# Altium footprint library PCB封装.PcbLib: 150 footprints (part 6 of 10)
Each footprint in its own frame and in the unit in brackets; x right, y up, seen from the top. Pads: shape width x height; smd on the part's side, far side on the other; paste and mask are expansions set on the pad; w line width, h text height; cw(c..) or ccw(c..) is an arc to the next point about the centre after c.
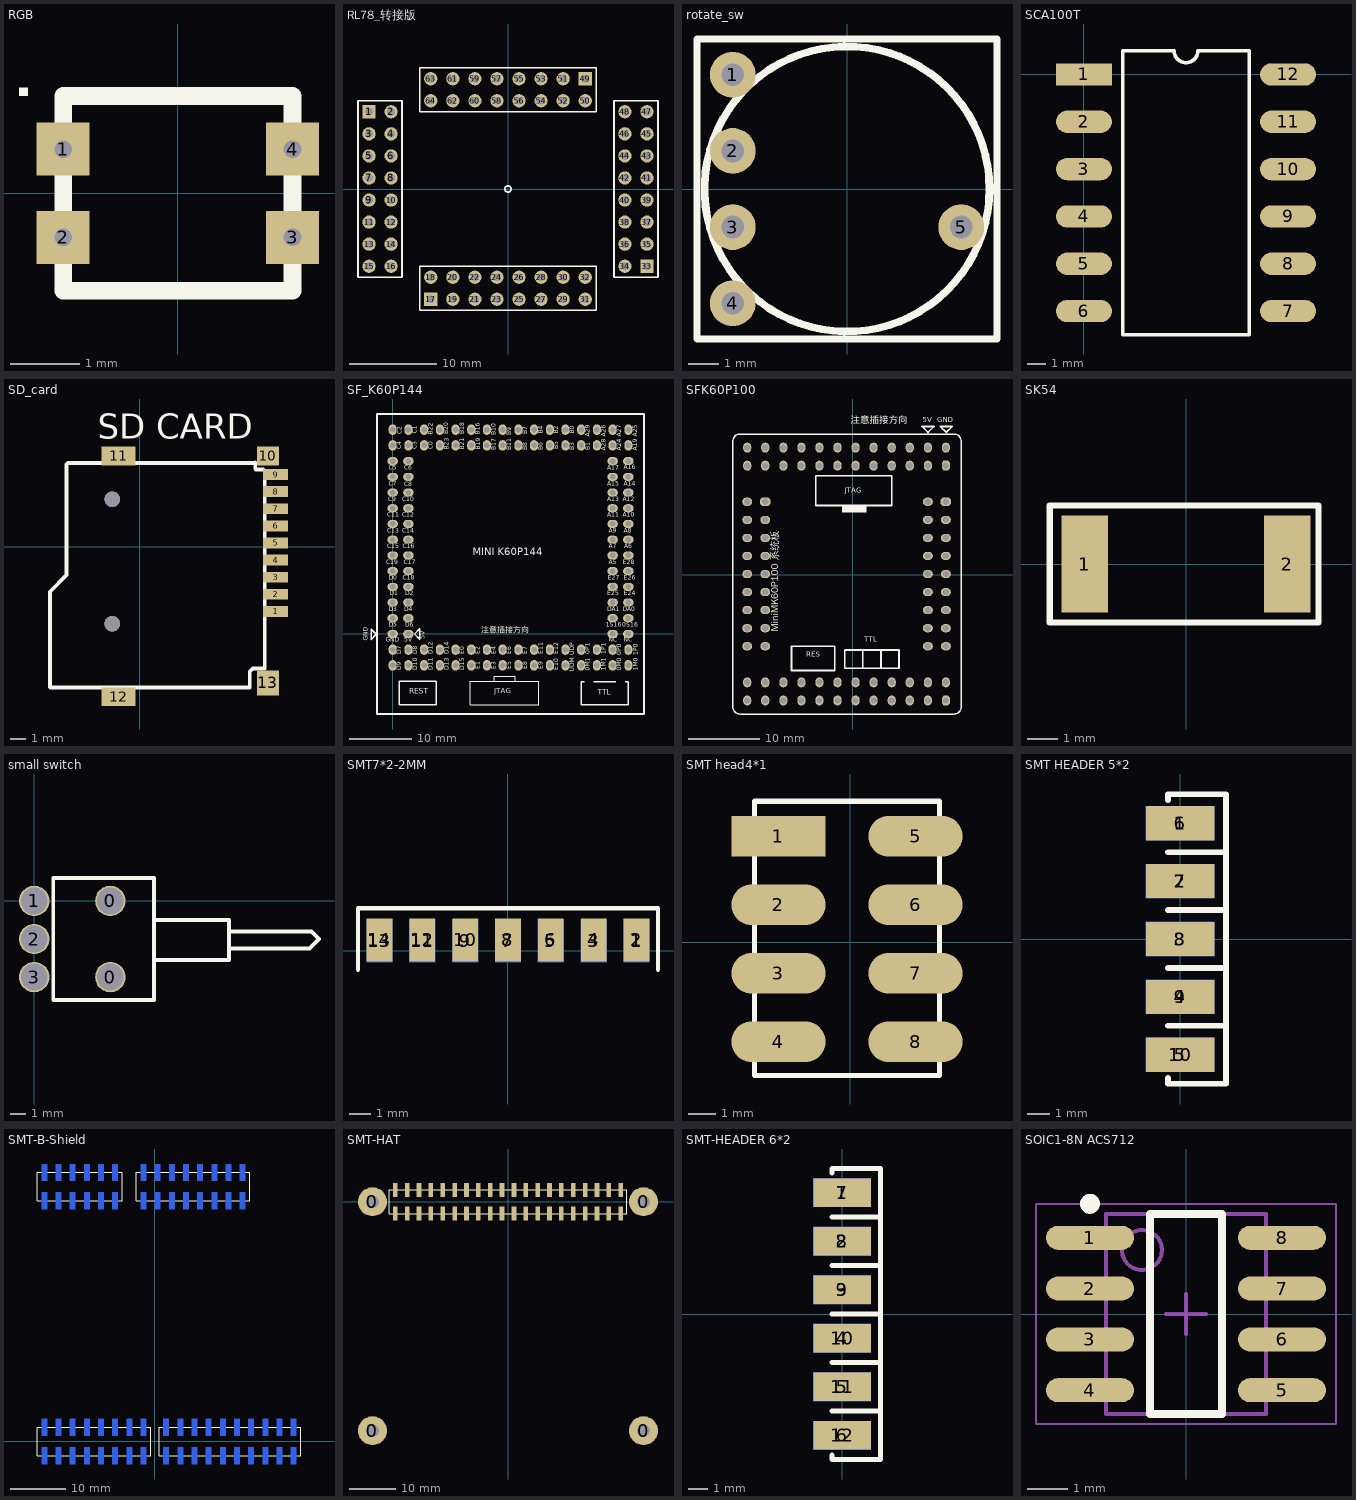
[diagram p5: the footprints below, top view; thin cyan lines are the x and y axes]

## RGB [mil]
height 2
pads (4):
  rect 30x30 hole 10: 1(-65,25) 2(-65,-25) 3(65,-25) 4(65,25)
Top Overlay:
  rectangle: -90,55 -85,60
  lines w10: -64.96,-55.12 -64.96,55.12 64.96,55.12 64.96,-55.12 -64.96,-55.12

## RL78_转接版 [mil]
height 393.7
pads (64):
  rect 60x60 hole 35: 1(-630,350) 17(-350,-500) 33(630,-350) 49(350,500)
  round 60 hole 35: 2(-530,350) 3(-630,250) 4(-530,250) 5(-630,150) 6(-530,150) 7(-630,50) 8(-530,50) 9(-630,-50) 10(-530,-50) 11(-630,-150) 12(-530,-150) 13(-630,-250) 14(-530,-250) 15(-630,-350) 16(-530,-350) 18(-350,-400) 19(-250,-500) 20(-250,-400) 21(-150,-500) 22(-150,-400) 23(-50,-500) 24(-50,-400) 25(50,-500) 26(50,-400) 27(150,-500) 28(150,-400) 29(250,-500) 30(250,-400) 31(350,-500) 32(350,-400) 34(530,-350) 35(630,-250) 36(530,-250) 37(630,-150) 38(530,-150) 39(630,-50) 40(530,-50) 41(630,50) 42(530,50) 43(630,150) 44(530,150) 45(630,250) 46(530,250) 47(630,350) 48(530,350) 50(350,400) 51(250,500) 52(250,400) 53(150,500) 54(150,400) 55(50,500) 56(50,400) 57(-50,500) 58(-50,400) 59(-150,500) 60(-150,400) 61(-250,500) 62(-250,400) 63(-350,500) 64(-350,400)
Top Overlay:
  circle w6: c0,0 r14.14
  lines w7.87: -680,400 -680,-400 -480,-400 -480,400 -678.04,400 ; -400,-550 400,-550 400,-350 -400,-350 -400,-548.04 ; 400,548.04 400,350 -400,350 -400,550 400,550 ; 678.04,-400 480,-400 480,400 680,400 680,-400

## rotate_sw [mil]
pads (5):
  round 60 hole 30: 1(-150,150) 2(-150,50) 3(-150,-50) 4(-150,-150) 5(150,-50)
Top Overlay:
  circle w10: c0,0 r187.01
  lines w9.65: -196.85,-196.85 -196.85,196.85 196.85,196.85 196.85,-196.85 -196.85,-196.85

## SCA100T [mm]
pads (12):
  rect 3x1.2 smd: 1(0,0)
  oval 3x1.2 smd: 2(0,-2.54) 3(0,-5.08) 4(0,-7.62) 5(0,-10.16) 6(0,-12.7) 7(10.96,-12.7) 8(10.96,-10.16) 9(10.96,-7.62) 10(10.96,-5.08) 11(10.96,-2.54) 12(10.96,0)
Top Overlay:
  lines w0.2: 2.085,-13.97 2.085,1.27 4.845,1.27 ccw(c5.48,1.27) 6.115,1.27 8.875,1.27 8.875,-13.97 2.085,-13.97

## SD_card [mm]
height 2
pads (13):
  rect 1.6x0.7 smd: 1(8.732,-4.16) 2(8.732,-3.06) 3(8.732,-1.96) 4(8.732,-0.86) 5(8.732,0.24) 6(8.732,1.34) 7(8.732,2.44) 8(8.732,3.54) 9(8.732,4.64)
  rect 1.4x1.2 smd: 10(8.232,5.84)
  rect 2.2x1.2 smd: 11(-1.368,5.84) 12(-1.368,-9.66)
  rect 1.4x1.6 smd: 13(8.232,-8.76)
via -1.768,-4.96 diameter 1 hole 1
via -1.768,3.04 diameter 1 hole 1
Top Overlay:
  lines w0.254: -5.788,-9.041 -5.788,-2.898 -4.721,-1.831 -4.721,5.281 -4.62,5.382 7.369,5.382 7.42,5.433 7.42,5.027 7.471,4.976 7.928,4.976 8.03,4.874 8.03,-7.826 7.268,-7.826 7.064,-8.029 7.064,-9.045 -5.768,-9.045
  text "SD CARD" at -2.714,6.937 h1.6

## SF_K60P144 [mm]
pads (112):
  oval 1.7x1.3 hole 0.9: 101(0,27.94) 102(2.54,27.94) 103(0,25.4) 104(2.54,25.4) 105(0,22.86) 106(2.54,22.86) 107(0,20.32) 108(2.54,20.32) 109(0,17.78) 110(2.54,17.78) 111(0,15.24) 112(2.54,15.24) 113(0,12.7) 114(2.54,12.7) 115(0,10.16) 116(2.54,10.16) 117(0,7.62) 118(2.54,7.62) 119(0,5.08) 120(2.54,5.08) 121(0,2.54) 122(2.54,2.54) 123(0,0) 124(2.54,0) 301(35.56,27.94) 302(38.1,27.94) 303(35.56,25.4) 304(38.1,25.4) 305(35.56,22.86) 306(38.1,22.86) 307(35.56,20.32) 308(38.1,20.32) 309(35.56,17.78) 310(38.1,17.78) 311(35.56,15.24) 312(38.1,15.24) 313(35.56,12.7) 314(38.1,12.7) 315(35.56,10.16) 316(38.1,10.16) 317(35.56,7.62) 318(38.1,7.62) 319(35.56,5.08) 320(38.1,5.08) 321(35.56,2.54) 322(38.1,2.54) 323(35.56,0) 324(38.1,0)
  oval 1.3x1.7 hole 0.9: 201(0,-5.08) 202(0,-2.54) 203(2.54,-5.08) 204(2.54,-2.54) 205(5.08,-5.08) 206(5.08,-2.54) 207(7.62,-5.08) 208(7.62,-2.54) 209(10.16,-5.08) 210(10.16,-2.54) 211(12.7,-5.08) 212(12.7,-2.54) 213(15.24,-5.08) 214(15.24,-2.54) 215(17.78,-5.08) 216(17.78,-2.54) 217(20.32,-5.08) 218(20.32,-2.54) 219(22.86,-5.08) 220(22.86,-2.54) 221(25.4,-5.08) 222(25.4,-2.54) 223(27.94,-5.08) 224(27.94,-2.54) 225(30.48,-5.08) 226(30.48,-2.54) 227(33.02,-5.08) 228(33.02,-2.54) 229(35.56,-5.08) 230(35.56,-2.54) 231(38.1,-5.08) 232(38.1,-2.54) 401(0,30.48) 402(0,33.02) 403(2.54,30.48) 404(2.54,33.02) 405(5.08,30.48) 406(5.08,33.02) 407(7.62,30.48) 408(7.62,33.02) 409(10.16,30.48) 410(10.16,33.02) 411(12.7,30.48) 412(12.7,33.02) 413(15.24,30.48) 414(15.24,33.02) 415(17.78,30.48) 416(17.78,33.02) 417(20.32,30.48) 418(20.32,33.02) 419(22.86,30.48) 420(22.86,33.02) 421(25.4,30.48) 422(25.4,33.02) 423(27.94,30.48) 424(27.94,33.02) 425(30.48,30.48) 426(30.48,33.02) 427(33.02,30.48) 428(33.02,33.02) 429(35.56,30.48) 430(35.56,33.02) 431(38.1,30.48) 432(38.1,33.02)
Top Overlay:
  lines w0.2: 16.383,-7.62 16.383,-6.858 19.812,-6.858 19.812,-7.62 ; 12.573,-11.43 23.622,-11.43 23.622,-7.62 12.573,-7.62 12.573,-11.43
  lines w0.203: 7.064,-11.303 7.064,-7.652 1.064,-7.652 1.064,-11.152 1.064,-11.43 7.064,-11.43 7.064,-11.152 ; 30.988,-7.74 30.48,-7.74 30.48,-11.43 38.1,-11.43 38.1,-7.74 37.592,-7.74 ; 32.512,-7.7 36.068,-7.7
  lines w0.254: -3.48,-0.914 -2.642,-0.076 -3.48,0.762 -3.48,-0.914 ; -2.54,-12.954 40.64,-12.954 40.64,35.56 -2.54,35.56 -2.54,-12.954 ; 3.531,-0.025 4.369,0.813 4.369,-0.864 3.531,-0.025
  text "注意插接方向" at 14.351,-0.127 h1.65
  text "GND" at -3.81,-1.143 h1.17
  text "5V" at 5.461,-0.889 h1.27
  text "TTL" at 33.147,-10.16 h1.52
  text "JTAG" at 16.383,-9.906 h1.4
  text "REST" at 2.667,-10.033 h1.52
  text "1P0" at 39.878,-3.429 h1.22
  text "1M0" at 39.878,-5.969 h1.22
  text "MINI K60P144" at 12.954,12.319 h2.03
  text "NC" at 34.925,-1.524 h1.22
  text "NC" at 37.338,-1.524 h1.22
  text "0S16" at 37.084,0.889 h1.22
  text "1S16" at 34.417,0.889 h1.22
  text "DA1" at 34.671,3.429 h1.22
  text "DA0" at 37.211,3.429 h1.22
  text "E24" at 37.338,5.969 h1.22
  text "E25" at 34.671,5.969 h1.22
  text "E26" at 37.338,8.509 h1.22
  text "E27" at 34.798,8.509 h1.22
  text "E28" at 37.211,11.049 h1.22
  text "A5" at 34.925,11.049 h1.22
  text "A7" at 34.925,13.589 h1.22
  text "A6" at 37.465,13.589 h1.22
  text "A8" at 37.338,16.129 h1.22
  text "A9" at 34.925,16.129 h1.22
  text "A10" at 37.211,18.669 h1.22
  text "A11" at 34.671,18.669 h1.22
  text "A13" at 34.671,21.209 h1.22
  text "A12" at 37.211,21.209 h1.22
  text "A14" at 37.338,23.749 h1.22
  text "A15" at 34.671,23.749 h1.22
  text "A16" at 37.338,26.416 h1.22
  text "A17" at 34.671,26.289 h1.22
  text "5V" at 1.905,-1.524 h1.22
  text "GND" at -1.143,-1.524 h1.22
  text "D6" at 2.032,0.889 h1.22
  text "D5" at -0.635,0.889 h1.22
  text "D4" at 1.905,3.429 h1.22
  text "D3" at -0.635,3.429 h1.22
  text "D2" at 2.032,5.969 h1.22
  text "D1" at -0.508,5.969 h1.22
  text "C18" at 1.651,8.509 h1.22
  text "D0" at -0.635,8.509 h1.22
  text "C17" at 1.778,11.049 h1.22
  text "C19" at -1.016,11.049 h1.22
  text "C16" at 1.651,13.589 h1.22
  text "C15" at -0.889,13.589 h1.22
  text "C14" at 1.524,16.129 h1.22
  text "C13" at -0.889,16.129 h1.22
  text "C12" at 1.524,18.669 h1.22
  text "C11" at -0.889,18.669 h1.22
  text "C10" at 1.524,21.209 h1.22
  text "C9" at -0.762,21.209 h1.22
  text "C8" at 1.905,23.622 h1.22
  text "C7" at -0.635,23.749 h1.22
  text "C6" at 1.905,26.289 h1.22
  text "C5" at -0.635,26.289 h1.22
  text "0P0" at 37.211,-3.429 h1.22
  text "0M0" at 37.211,-5.969 h1.22
  text "D10" at 4.191,-5.842 h1.22
  text "D8" at 4.191,-3.302 h1.22
  text "D9" at 1.651,-5.842 h1.22
  text "D7" at 1.651,-3.302 h1.22
  text "A19" at 39.751,29.591 h1.22
  text "A24" at 37.211,29.591 h1.22
  text "A25" at 39.751,31.877 h1.22
  text "A27" at 37.211,31.877 h1.22
  text "C2" at 1.702,32.309 h1.22
  text "C1" at 4.166,32.334 h1.22
  text "C3" at 4.166,29.896 h1.22
  text "C4" at 1.651,29.845 h1.22
  text "1M1" at 34.671,-5.969 h1.22
  text "1P1" at 34.671,-3.302 h1.22
  text "0M1" at 32.131,-5.969 h1.22
  text "0P1" at 32.131,-3.302 h1.22
  text "UDM" at 29.591,-6.096 h1.22
  text "UDP" at 29.591,-3.429 h1.22
  text "E10" at 27.051,-5.842 h1.22
  text "E12" at 27.051,-3.302 h1.22
  text "E9" at 24.511,-5.715 h1.22
  text "E11" at 24.511,-3.302 h1.22
  text "E8" at 21.971,-5.715 h1.22
  text "E7" at 21.971,-3.302 h1.22
  text "E5" at 19.431,-5.715 h1.22
  text "E6" at 19.431,-3.302 h1.22
  text "E3" at 16.891,-5.715 h1.22
  text "E4" at 16.891,-3.302 h1.22
  text "E1" at 14.351,-5.715 h1.22
  text "E2" at 14.351,-3.302 h1.22
  text "D15" at 11.811,-5.842 h1.22
  text "E0" at 11.811,-3.302 h1.22
  text "D14" at 9.271,-3.302 h1.22
  text "D13" at 9.271,-5.842 h1.22
  text "D11" at 6.731,-5.842 h1.22
  text "D12" at 6.731,-3.302 h1.22
  text "A28" at 34.671,29.591 h1.22
  text "A26" at 34.671,31.877 h1.22
  text "B1" at 32.131,29.718 h1.22
  text "A29" at 32.131,31.877 h1.22
  text "B3" at 29.591,29.718 h1.22
  text "B0" at 29.591,32.385 h1.22
  text "B5" at 27.051,29.845 h1.22
  text "B2" at 27.051,32.385 h1.22
  text "B6" at 24.511,29.718 h1.22
  text "B4" at 24.511,32.385 h1.22
  text "B8" at 21.971,29.693 h1.22
  text "B7" at 21.971,32.258 h1.22
  text "B11" at 19.431,29.667 h1.22
  text "B9" at 19.431,32.156 h1.22
  text "B17" at 16.942,29.718 h1.22
  text "B10" at 16.866,32.156 h1.22
  text "B16" at 14.326,32.233 h1.22
  text "B19" at 14.376,29.743 h1.22
  text "B21" at 11.811,29.743 h1.22
  text "B18" at 11.811,32.258 h1.22
  text "B20" at 9.246,32.258 h1.22
  text "B23" at 9.296,29.743 h1.22
  text "C0" at 6.731,29.896 h1.22
  text "B22" at 6.706,32.207 h1.22

## SFK60P100 [mil]
height 196.85
pads (84):
  oct 58x45 hole 35: 101(-485,405) 201(515,405)
  oval 55x45 hole 35: 102(-585,405) 103(-485,305) 104(-585,305) 105(-485,205) 106(-585,205) 107(-485,105) 108(-585,105) 109(-485,5) 110(-585,5) 111(-485,-95) 112(-585,-95) 113(-485,-195) 114(-585,-195) 115(-485,-295) 116(-585,-295) 117(-485,-395) 118(-585,-395) 202(415,405) 203(515,305) 204(415,305) 205(515,205) 206(415,205) 207(515,105) 208(415,105) 209(515,5) 210(415,5) 211(515,-95) 212(415,-95) 213(515,-195) 214(415,-195) 215(515,-295) 216(415,-295) 217(515,-395) 218(415,-395)
  oct 45x55 hole 35: 301(515,-695) 401(515,605)
  oval 45x55 hole 35: 302(515,-595) 303(415,-695) 304(415,-595) 305(315,-695) 306(315,-595) 307(215,-695) 308(215,-595) 309(115,-695) 310(115,-595) 311(15,-695) 312(15,-595) 313(-85,-695) 314(-85,-595) 315(-185,-695) 316(-185,-595) 317(-285,-695) 318(-285,-595) 319(-385,-695) 320(-385,-595) 321(-485,-695) 322(-485,-595) 323(-585,-695) 324(-585,-595) 402(515,705) 403(415,605) 404(415,705) 405(315,605) 406(315,705) 407(215,605) 408(215,705) 409(115,605) 410(115,705) 411(15,605) 412(15,705) 413(-85,605) 414(-85,705) 415(-185,605) 416(-185,705) 417(-285,605) 418(-285,705) 419(-385,605) 420(-385,705) 421(-485,605) 422(-485,705) 423(-585,605) 424(-585,705)
Top Overlay:
  region: 75,389 -60,389 -60,345 75,345
  lines w8: -665,-730 ccw(c-625,-730) -625,-770 560,-770 ccw(c560,-730) 600,-730 600,740 ccw(c560,740) 560,780 -625,780 ccw(c-625,740) -665,740 -665,-730
  lines w10: 55,-517 55,-415 ; 155,-517 155,-415 ; -340,-529 -340,-395 -100,-395 -100,-529 -340,-529 ; -205,385 -205,549 215,549 215,385 -205,385 ; -45,-517 24.75,-517 206.25,-517 255,-517 255,-415 -45,-415 -45,-517 ; 383,822 449,822 416,789 383,822 ; 484,822 517,789 550,822 484,822
  text "GND" at 466,833 h47.24
  text "5V" at 387,834 h47.24
  text "RES" at -258,-463 h47.24
  text "TTL" at 64,-382 h47.24
  text "MiniMK60P100 系统板" at -400,-315 h70.87
  text "注意插接方向" at -13,826 h65
  text "JTAG" at -45,445 h47.24
3D body: height 35, standoff 0, extent -225,-195 215,205
3D body: height 30, standoff 0, extent -665,-775 595,785
3D body: height 100, standoff 0, extent -637,553 573,753
3D body: height 100, standoff 0, extent 361,-437 561,463
3D body: height 100, standoff 0, extent -637,-444 -437,456
3D body: height 100, standoff 0, extent -645,-745 565,-545
3D body: height 393.7, standoff 0, extent 495.16,685 535,724.92
3D body: height 393.7, standoff 0, extent 395.16,685 435,724.92
3D body: height 393.7, standoff 0, extent 295.16,685 335,724.92
3D body: height 393.7, standoff 0, extent 195,685.08 234.84,725
3D body: height 393.7, standoff 0, extent 95,685.08 134.84,725
3D body: height 393.7, standoff 0, extent -5,685.08 34.84,725
3D body: height 393.7, standoff 0, extent -105,685.08 -65.16,725
3D body: height 393.7, standoff 0, extent -205,685.08 -165.16,725
3D body: height 393.7, standoff 0, extent -305,685.08 -265.16,725
3D body: height 393.7, standoff 0, extent -405,685.08 -365.16,725
3D body: height 393.7, standoff 0, extent -505,685.08 -465.16,725
3D body: height 393.7, standoff 0, extent -605,685.08 -565.16,725
3D body: height 393.7, standoff 0, extent -605,585.08 -565.16,625
3D body: height 393.7, standoff 0, extent -505,585.08 -465.16,625
3D body: height 393.7, standoff 0, extent -405,585.08 -365.16,625
3D body: height 393.7, standoff 0, extent -305,585.08 -265.16,625
3D body: height 393.7, standoff 0, extent -205,585.08 -165.16,625
3D body: height 393.7, standoff 0, extent -105,585.08 -65.16,625
3D body: height 393.7, standoff 0, extent -5,585.08 34.84,625
3D body: height 393.7, standoff 0, extent 95,585.08 134.84,625
3D body: height 393.7, standoff 0, extent 195,585.08 234.84,625
3D body: height 393.7, standoff 0, extent 295.16,585 335,624.92
3D body: height 393.7, standoff 0, extent 395.16,585 435,624.92
3D body: height 393.7, standoff 0, extent 495.16,585 535,624.92
3D body: height 393.7, standoff 0, extent 395.08,385.16 435,425
3D body: height 393.7, standoff 0, extent 395.08,285.16 435,325
3D body: height 393.7, standoff 0, extent 395.08,185.16 435,225
3D body: height 393.7, standoff 0, extent 395,85 434.92,124.84
3D body: height 393.7, standoff 0, extent 395,-15 434.92,24.84
3D body: height 393.7, standoff 0, extent 495,-15 534.92,24.84
3D body: height 393.7, standoff 0, extent 495,85 534.92,124.84
3D body: height 393.7, standoff 0, extent 495.08,185.16 535,225
3D body: height 393.7, standoff 0, extent 495.08,285.16 535,325
3D body: height 393.7, standoff 0, extent 495.08,385.16 535,425
3D body: height 393.7, standoff 0, extent 495,-415 534.92,-375.16
3D body: height 393.7, standoff 0, extent 495,-315 534.92,-275.16
3D body: height 393.7, standoff 0, extent 495.08,-214.84 535,-175
3D body: height 393.7, standoff 0, extent 495.08,-114.84 535,-75
3D body: height 393.7, standoff 0, extent 395.08,-114.84 435,-75
3D body: height 393.7, standoff 0, extent 395.08,-214.84 435,-175
3D body: height 393.7, standoff 0, extent 395,-315 434.92,-275.16
3D body: height 393.7, standoff 0, extent 395,-415 434.92,-375.16
3D body: height 393.7, standoff 0, extent -605,-415 -565.08,-375.16
3D body: height 393.7, standoff 0, extent -605,-315 -565.08,-275.16
3D body: height 393.7, standoff 0, extent -604.92,-214.84 -565,-175
3D body: height 393.7, standoff 0, extent -604.92,-114.84 -565,-75
3D body: height 393.7, standoff 0, extent -504.92,-114.84 -465,-75
3D body: height 393.7, standoff 0, extent -504.92,-214.84 -465,-175
3D body: height 393.7, standoff 0, extent -505,-315 -465.08,-275.16
3D body: height 393.7, standoff 0, extent -505,-415 -465.08,-375.16
3D body: height 393.7, standoff 0, extent -504.92,385.16 -465,425
3D body: height 393.7, standoff 0, extent -504.92,285.16 -465,325
3D body: height 393.7, standoff 0, extent -504.92,185.16 -465,225
3D body: height 393.7, standoff 0, extent -505,85 -465.08,124.84
3D body: height 393.7, standoff 0, extent -505,-15 -465.08,24.84
3D body: height 393.7, standoff 0, extent -605,-15 -565.08,24.84
3D body: height 393.7, standoff 0, extent -605,85 -565.08,124.84
3D body: height 393.7, standoff 0, extent -604.92,185.16 -565,225
3D body: height 393.7, standoff 0, extent -604.92,285.16 -565,325
3D body: height 393.7, standoff 0, extent -604.92,385.16 -565,425
3D body: height 393.7, standoff 0, extent 495.16,-715 535,-675.08
3D body: height 393.7, standoff 0, extent 395.16,-715 435,-675.08
3D body: height 393.7, standoff 0, extent 295.16,-715 335,-675.08
3D body: height 393.7, standoff 0, extent 195,-714.92 234.84,-675
3D body: height 393.7, standoff 0, extent 95,-714.92 134.84,-675
3D body: height 393.7, standoff 0, extent -5,-714.92 34.84,-675
3D body: height 393.7, standoff 0, extent -105,-714.92 -65.16,-675
3D body: height 393.7, standoff 0, extent -205,-714.92 -165.16,-675
3D body: height 393.7, standoff 0, extent -305,-714.92 -265.16,-675
3D body: height 393.7, standoff 0, extent -405,-714.92 -365.16,-675
3D body: height 393.7, standoff 0, extent -505,-714.92 -465.16,-675
3D body: height 393.7, standoff 0, extent -605,-714.92 -565.16,-675
3D body: height 393.7, standoff 0, extent -605,-614.92 -565.16,-575
3D body: height 393.7, standoff 0, extent -505,-614.92 -465.16,-575
3D body: height 393.7, standoff 0, extent -405,-614.92 -365.16,-575
3D body: height 393.7, standoff 0, extent -305,-614.92 -265.16,-575
3D body: height 393.7, standoff 0, extent -205,-614.92 -165.16,-575
3D body: height 393.7, standoff 0, extent -105,-614.92 -65.16,-575
3D body: height 393.7, standoff 0, extent -5,-614.92 34.84,-575
3D body: height 393.7, standoff 0, extent 95,-614.92 134.84,-575
3D body: height 393.7, standoff 0, extent 195,-614.92 234.84,-575
3D body: height 393.7, standoff 0, extent 295.16,-615 335,-575.08
3D body: height 393.7, standoff 0, extent 395.16,-615 435,-575.08
3D body: height 393.7, standoff 0, extent 495.16,-615 535,-575.08

## SK54 [mm]
pads (2):
  rect 1.52x3.18 smd: 1(-3.305,0) 2(3.305,0)
Top Overlay:
  lines w0.2: -4.445,-1.905 4.318,-1.905 4.318,1.905 -4.445,1.905 -4.445,1.07 -4.445,-1.905

## small switch [mil]
height 236.22
pads (5):
  round 80 hole 70: 0(200,-200) 0(200,0) 1(0,0) 2(0,-100) 3(0,-200)
Top Overlay:
  lines w10: 314.96,-155 511.81,-155 511.81,-50 314.96,-50 ; 511.81,-125 595.87,-125 663.98,-125 723.03,-125 748.03,-100 728.03,-80 668.98,-80 590.87,-80 511.81,-80 ; 50,-260 314.96,-260 314.96,60 50,60 50,-260

## SMT7*2-2MM [mm]
pads (14):
  rect 1.2x2 smd far side: 1(6.02,0.464) 3(4.02,0.464) 5(2.02,0.464) 7(0.02,0.464) 9(-1.98,0.464) 11(-3.98,0.464) 13(-5.98,0.464)
  rect 1.2x2 smd: 2(6.02,0.496) 4(4.02,0.496) 6(2.02,0.496) 8(0.02,0.496) 10(-1.98,0.496) 12(-3.98,0.496) 14(-5.98,0.496)
Top Overlay:
  lines w0.2: -6.98,-0.889 -6.98,1.972 7.02,1.972 7.02,-0.889

## SMT head4*1 [mm]
pads (8):
  rect 3.5x1.5 smd: 1(-2.667,3.937)
  oval 3.5x1.5 smd: 2(-2.667,1.397) 3(-2.667,-1.143) 4(-2.667,-3.683) 5(2.413,3.937) 6(2.413,1.397) 7(2.413,-1.143) 8(2.413,-3.683)
Top Overlay:
  lines w0.2: -3.556,-4.932 3.302,-4.932 3.302,5.228 -3.556,5.228 -3.556,-4.932

## SMT HEADER 5*2 [mm]
pads (10):
  rect 3x1.5 smd: 1(0,5.08) 2(0,2.54) 3(0,0) 4(0,-2.54) 5(0,-5.08)
  rect 3x1.5 smd far side: 6(0,5.08) 7(0,2.54) 8(0,0) 9(0,-2.54) 10(0,-5.08)
Top Overlay:
  lines w0.254: -0.53,-6.096 -0.53,-6.35 2.01,-6.35 2.01,6.35 -0.53,6.35 -0.53,6.096 ; -0.53,-3.81 2.01,-3.81 ; -0.53,-1.27 2.01,-1.27 ; -0.53,1.27 2.01,1.27 ; -0.53,3.81 2.01,3.81
Bottom Overlay:
  lines w0.254: -0.53,-6.096 -0.53,-6.35 2.01,-6.35 2.01,6.35 -0.53,6.35 -0.53,6.096 ; -0.53,-3.81 2.01,-3.81 ; -0.53,-1.27 2.01,-1.27 ; -0.53,1.27 2.01,1.27 ; -0.53,3.81 2.01,3.81

## SMT-B-Shield [mm]
pads (64):
  rect 1x3 smd far side: 1(-19.812,43.18) 2(-19.812,48.26) 3(-17.272,43.18) 4(-17.272,48.26) 5(-14.732,43.18) 6(-14.732,48.26) 7(-12.192,43.18) 8(-12.192,48.26) 9(-9.652,43.18) 10(-9.652,48.26) 11(-7.112,43.18) 12(-7.112,48.26) 13(-2.037,43.18) 14(-2.037,48.26) 15(0.503,43.18) 16(0.503,48.26) 17(3.043,43.18) 18(3.043,48.26) 19(5.583,43.18) 20(5.583,48.26) 21(8.123,43.18) 22(8.123,48.26) 23(10.663,43.18) 24(10.663,48.26) 25(13.203,43.18) 26(13.203,48.26) 27(15.743,43.18) 28(15.743,48.26) 29(-19.812,-2.54) 30(-19.812,2.54) 31(-17.272,-2.54) 32(-17.272,2.54) 33(-14.732,-2.54) 34(-14.732,2.54) 35(-12.192,-2.54) 36(-12.192,2.54) 37(-9.652,-2.54) 38(-9.652,2.54) 39(-7.112,-2.54) 40(-7.112,2.54) 41(-4.572,-2.54) 42(-4.572,2.54) 43(-2.032,-2.54) 44(-2.032,2.54) 45(2.032,-2.54) 46(2.032,2.54) 47(4.572,-2.54) 48(4.572,2.54) 49(7.112,-2.54) 50(7.112,2.54) 51(9.652,-2.54) 52(9.652,2.54) 53(12.192,-2.54) 54(12.192,2.54) 55(14.732,-2.54) 56(14.732,2.54) 57(17.272,-2.54) 58(17.272,2.54) 59(19.812,-2.54) 60(19.812,2.54) 61(22.352,-2.54) 62(22.352,2.54) 63(24.892,-2.54) 64(24.892,2.54)
Top Overlay:
  lines w0.2: -21.082,-2.54 -0.762,-2.54 -0.762,2.54 -21.082,2.54 -21.082,-2.54 ; -21.082,43.18 -5.842,43.18 -5.842,48.26 -21.082,48.26 -21.082,43.18 ; -3.307,43.16 17.013,43.16 17.013,48.24 -3.307,48.24 -3.307,43.16 ; 0.762,-2.54 0.762,2.54 2.667,2.54 26.162,2.54 26.162,-2.54 2.667,-2.54 0.762,-2.54

## SMT-HAT [mm]
pads (44):
  round 6.2 hole 2.75: 0(-29,-49) 0(-29,0) 0(29,-49) 0(29,0)
  rect 1x3 smd: 1(-24.13,-2.54) 2(-24.13,2.54) 3(-21.59,-2.54) 4(-21.59,2.54) 5(-19.05,-2.54) 6(-19.05,2.54) 7(-16.51,-2.54) 8(-16.51,2.54) 9(-13.97,-2.54) 10(-13.97,2.54) 11(-11.43,-2.54) 12(-11.43,2.54) 13(-8.89,-2.54) 14(-8.89,2.54) 15(-6.35,-2.54) 16(-6.35,2.54) 17(-3.81,-2.54) 18(-3.81,2.54) 19(-1.27,-2.54) 20(-1.27,2.54) 21(1.27,-2.54) 22(1.27,2.54) 23(3.81,-2.54) 24(3.81,2.54) 25(6.35,-2.54) 26(6.35,2.54) 27(8.89,-2.54) 28(8.89,2.54) 29(11.43,-2.54) 30(11.43,2.54) 31(13.97,-2.54) 32(13.97,2.54) 33(16.51,-2.54) 34(16.51,2.54) 35(19.05,-2.54) 36(19.05,2.54) 37(21.59,-2.54) 38(21.59,2.54) 39(24.13,-2.54) 40(24.13,2.54)
Top Overlay:
  lines w0.2: -25.4,-2.54 25.4,-2.54 25.4,2.54 -25.4,2.54 -25.4,-2.54
3D body "HEADER.STEP": height 7.58, standoff -2.94, extent 22.86,0 25.4,2.54
3D body "HEADER.STEP": height 7.58, standoff -2.94, extent 20.32,0 22.86,2.54
3D body "HEADER.STEP": height 7.58, standoff -2.94, extent 17.78,0 20.32,2.54
3D body "HEADER.STEP": height 7.58, standoff -2.94, extent 15.24,0 17.78,2.54
3D body "HEADER.STEP": height 7.58, standoff -2.94, extent 22.86,-2.54 25.4,0
3D body "HEADER.STEP": height 7.58, standoff -2.94, extent 20.32,-2.54 22.86,0
3D body "HEADER.STEP": height 7.58, standoff -2.94, extent 17.78,-2.54 20.32,0
3D body "HEADER.STEP": height 7.58, standoff -2.94, extent 15.24,-2.54 17.78,0
3D body "HEADER.STEP": height 7.58, standoff -2.94, extent 12.7,0 15.24,2.54
3D body "HEADER.STEP": height 7.58, standoff -2.94, extent 10.16,0 12.7,2.54
3D body "HEADER.STEP": height 7.58, standoff -2.94, extent 7.62,0 10.16,2.54
3D body "HEADER.STEP": height 7.58, standoff -2.94, extent 5.08,0 7.62,2.54
3D body "HEADER.STEP": height 7.58, standoff -2.94, extent 12.7,-2.54 15.24,0
3D body "HEADER.STEP": height 7.58, standoff -2.94, extent 10.16,-2.54 12.7,0
3D body "HEADER.STEP": height 7.58, standoff -2.94, extent 7.62,-2.54 10.16,0
3D body "HEADER.STEP": height 7.58, standoff -2.94, extent 5.08,-2.54 7.62,0
3D body "HEADER.STEP": height 7.58, standoff -2.94, extent 2.54,0 5.08,2.54
3D body "HEADER.STEP": height 7.58, standoff -2.94, extent 0,0 2.54,2.54
3D body "HEADER.STEP": height 7.58, standoff -2.94, extent -2.54,0 0,2.54
3D body "HEADER.STEP": height 7.58, standoff -2.94, extent -5.08,0 -2.54,2.54
3D body "HEADER.STEP": height 7.58, standoff -2.94, extent 2.54,-2.54 5.08,0
3D body "HEADER.STEP": height 7.58, standoff -2.94, extent 0,-2.54 2.54,0
3D body "HEADER.STEP": height 7.58, standoff -2.94, extent -2.54,-2.54 0,0
3D body "HEADER.STEP": height 7.58, standoff -2.94, extent -5.08,-2.54 -2.54,0
3D body "HEADER.STEP": height 7.58, standoff -2.94, extent -7.62,0 -5.08,2.54
3D body "HEADER.STEP": height 7.58, standoff -2.94, extent -10.16,0 -7.62,2.54
3D body "HEADER.STEP": height 7.58, standoff -2.94, extent -12.7,0 -10.16,2.54
3D body "HEADER.STEP": height 7.58, standoff -2.94, extent -15.24,0 -12.7,2.54
3D body "HEADER.STEP": height 7.58, standoff -2.94, extent -7.62,-2.54 -5.08,0
3D body "HEADER.STEP": height 7.58, standoff -2.94, extent -10.16,-2.54 -7.62,0
3D body "HEADER.STEP": height 7.58, standoff -2.94, extent -12.7,-2.54 -10.16,0
3D body "HEADER.STEP": height 7.58, standoff -2.94, extent -15.24,-2.54 -12.7,0
3D body "HEADER.STEP": height 7.58, standoff -2.94, extent -25.4,-2.54 -22.86,0
3D body "HEADER.STEP": height 7.58, standoff -2.94, extent -22.86,-2.54 -20.32,0
3D body "HEADER.STEP": height 7.58, standoff -2.94, extent -20.32,-2.54 -17.78,0
3D body "HEADER.STEP": height 7.58, standoff -2.94, extent -17.78,-2.54 -15.24,0
3D body "HEADER.STEP": height 7.58, standoff -2.94, extent -25.4,0 -22.86,2.54
3D body "HEADER.STEP": height 7.58, standoff -2.94, extent -22.86,0 -20.32,2.54
3D body "HEADER.STEP": height 7.58, standoff -2.94, extent -20.32,0 -17.78,2.54
3D body "HEADER.STEP": height 7.58, standoff -2.94, extent -17.78,0 -15.24,2.54

## SMT-HEADER 6*2 [mm]
pads (12):
  rect 3x1.5 smd: 1(0,6.35) 2(0,3.81) 3(0,1.27) 4(0,-1.27) 5(0,-3.81) 6(0,-6.35)
  rect 3x1.5 smd far side: 7(0,6.35) 8(0,3.81) 9(0,1.27) 10(0,-1.27) 11(0,-3.81) 12(0,-6.35)
Top Overlay:
  lines w0.254: -0.53,-7.366 -0.53,-7.62 2.01,-7.62 2.01,7.62 -0.53,7.62 -0.53,7.366 ; -0.53,-5.08 2.01,-5.08 ; -0.53,-2.54 2.01,-2.54 ; -0.53,0 2.01,0 ; -0.53,2.54 2.01,2.54 ; -0.53,5.08 2.01,5.08
Bottom Overlay:
  lines w0.254: -0.53,-7.366 -0.53,-7.62 2.01,-7.62 2.01,7.62 -0.53,7.62 -0.53,7.366 ; -0.53,-5.08 2.01,-5.08 ; -0.53,-2.54 2.01,-2.54 ; -0.53,0 2.01,0 ; -0.53,2.54 2.01,2.54 ; -0.53,5.08 2.01,5.08

## SOIC1-8N ACS712 [mm]
height 1.75
pads (8):
  oval 2.2x0.6 smd: 1(-2.4,1.905) 2(-2.4,0.635) 3(-2.4,-0.635) 4(-2.4,-1.905) 5(2.4,-1.905) 6(2.4,-0.635) 7(2.4,0.635) 8(2.4,1.905)
Top Overlay:
  circle w0.25: c-2.4,2.755 r0.125
  lines w0.2: -0.9,-2.5 -0.9,2.5 0.9,2.5 0.9,-2.5 -0.9,-2.5
Mechanical 13:
  circle w0.1: c-1.1,1.6 r0.5
  lines w0.1: -2,-2.5 -2,2.5 2,2.5 2,-2.5 -2,-2.5
Mechanical 15:
  lines w0.05: -3.75,-2.75 -3.75,2.75 3.75,2.75 3.75,-2.75 -3.75,-2.75
  lines w0.1: -0.5,0 0.5,0 ; 0,-0.5 0,0.5
3D body: height 1.75, standoff 0.25, extent -2,-2.5 2,2.5